# Altium footprint library INF-SC79_V.PcbLib: 1 footprints
Each footprint in its own frame and in the unit in brackets; x right, y up, seen from the top. Pads: shape width x height; smd on the part's side, far side on the other; paste and mask are expansions set on the pad; w line width, h text height; cw(c..) or ccw(c..) is an arc to the next point about the centre after c.
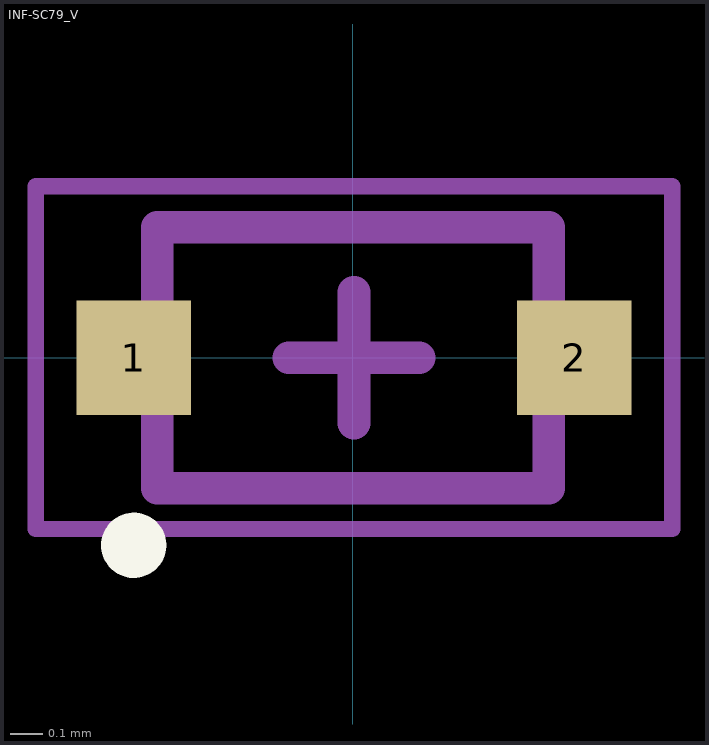
[diagram p0: the footprint, top view; thin cyan lines are the x and y axes]

## INF-SC79_V [mm] "SC79, 2-Leads, Body 1.2x0.8 mm"
height 0.59
pads (2):
  rect 0.35x0.35 smd: 1(-0.672,0) 2(0.678,0)
Top Overlay:
  circle w0.1: c-0.672,-0.575 r0.05
Mechanical 13:
  lines w0.1: -0.6,-0.4 -0.6,0.4 0.6,0.4 0.6,-0.4 -0.6,-0.4
Mechanical 15:
  lines w0.05: -0.972,-0.254 -0.972,0.337 -0.972,0.525 -0.762,0.525 0.381,0.525 0.978,0.525 0.978,0.337 0.978,-0.254 ; -0.972,0.254 -0.972,-0.337 -0.972,-0.525 -0.762,-0.525 0.381,-0.525 0.978,-0.525 0.978,-0.337 0.978,0.254
  lines w0.1: -0.197,0 0.203,0 ; 0.003,-0.2 0.003,0.2
3D body: height 0.59, standoff 0, extent -0.597,-0.4 0.603,0.4